# Altium integrated library Diodes - TVS.IntLib: 5379 symbols (part 7 of 122)
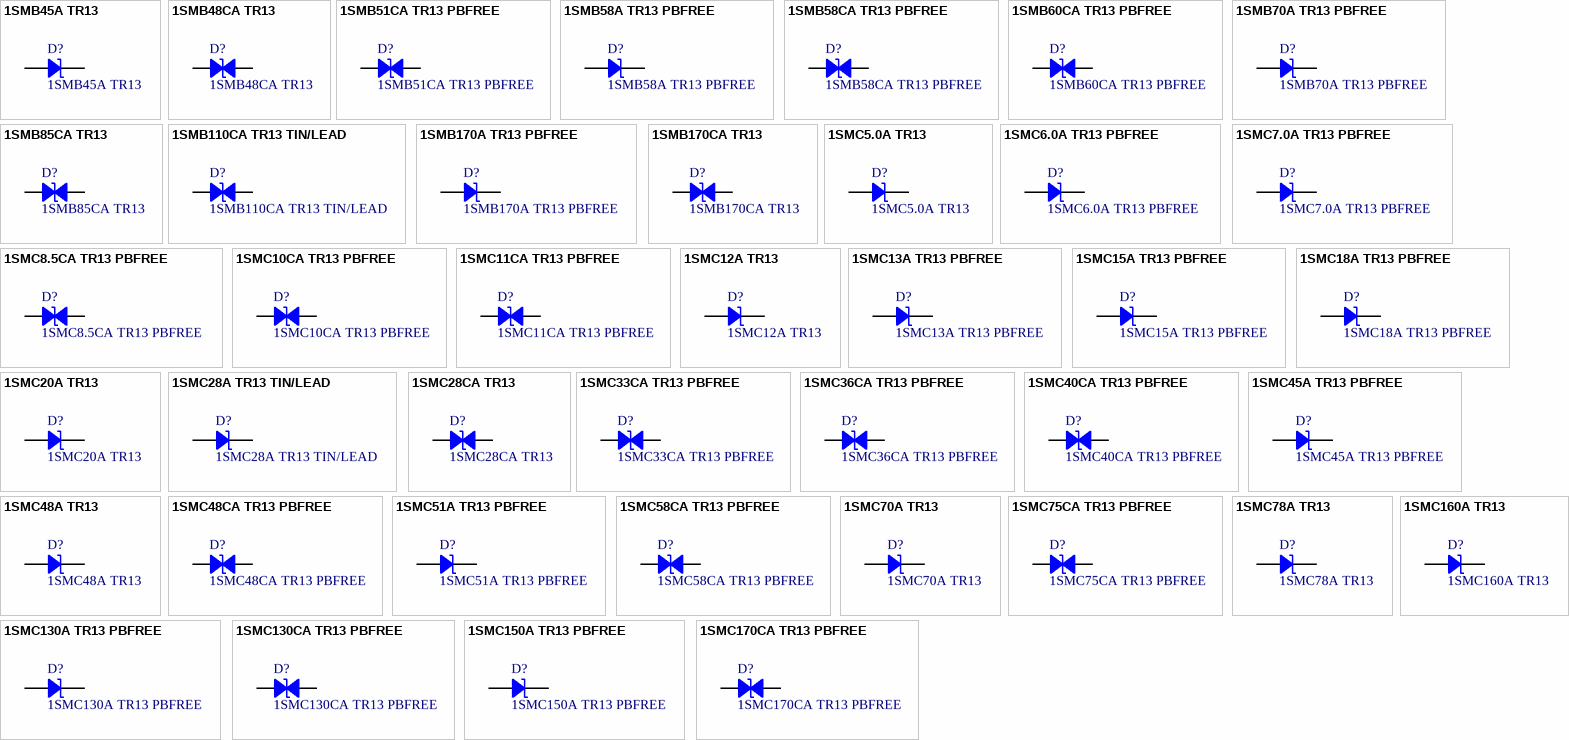
[diagram p140: symbols 1SMB45A TR13 to 1SMC170CA TR13 PBFREE]

## 1SMC18A TR13 PBFREE
designator D?
TVS DIODE 18V 29.2V SMC; Manufacturer: Central Semiconductor Corp; Current - Peak Pulse (10/1000µs): 51.4A; Power Line Protection: No; Power - Peak Pulse: 1500W (1.5kW); Type: Zener; Unidirectional Channels: 1; Voltage - Breakdown (Min): 20V; Part Number: 1SMC18A TR13 PBFREE; Applications: General Purpose; ComponentLink1Description: Datasheet; ComponentLink1URL: https://my.centralsemi.com/get_document.php?cmp=1&mergetype=pd&mergepath=pd&pdf_id=1SMC5.0A_170A.PDF; ComponentLink2Description: DigiKey Link; ComponentLink2URL: http://digikey.com/product-detail/en/central-semiconductor-corp/1SMC18A-TR13-PBFREE/1514-1SMC18ATR13PBFREECT-ND/5211009; LastUpdated: 9/2/2020 1:20:07 AM; Lifecycle Status: Active; Minimum Order: 1; Mounting Type: Surface Mount; Operating Temperature: -65°C ~ 150°C (TJ); Package / Case: DO-214AB, SMC; Packaging: TapeAndReel; PartId: 7112; Part Status: Active; Price: 0.41; Series: -; Supplier 1: DigiKey; Supplier Part Number 1: 1514-1SMC18ATR13PBFREECT-ND; Supplier Device Package: SMC; Voltage - Clamping (Max) @ Ipp: 29.2V; Voltage - Reverse Standoff (Typ): 18V
footprint DO214AB SMC
pins: 1, 2

## 1SMC20A TR13
designator D?
TVS DIODE 20V 32.4V SMC; Manufacturer: Central Semiconductor Corp; Current - Peak Pulse (10/1000µs): 46.3A; Power Line Protection: No; Power - Peak Pulse: 1500W (1.5kW); Type: Zener; Unidirectional Channels: 1; Voltage - Breakdown (Min): 22.2V; Part Number: 1SMC20A TR13; Applications: General Purpose; ComponentLink1Description: Datasheet; ComponentLink1URL: https://my.centralsemi.com/get_document.php?cmp=1&mergetype=pd&mergepath=pd&pdf_id=1SMC5.0A_170A.PDF; ComponentLink2Description: DigiKey Link; ComponentLink2URL: http://digikey.com/product-detail/en/central-semiconductor-corp/1SMC20A-TR13/1SMC20ATR13-CT-ND/5211011; LastUpdated: 9/2/2020 1:20:07 AM; Lifecycle Status: Active; Minimum Order: 1; Mounting Type: Surface Mount; Operating Temperature: -65°C ~ 150°C (TJ); Package / Case: DO-214AB, SMC; Packaging: CutTape; PartId: 7113; Part Status: Active; Price: 0.98; Series: -; Supplier 1: DigiKey; Supplier Part Number 1: 1SMC20ATR13-CT-ND; Supplier Device Package: SMC; Voltage - Clamping (Max) @ Ipp: 32.4V; Voltage - Reverse Standoff (Typ): 20V
footprint DO214AB SMC
pins: 1, 2

## 1SMC28A TR13 TIN/LEAD
designator D?
TVS DIODE 28V 45.4V SMC; Manufacturer: Central Semiconductor Corp; Current - Peak Pulse (10/1000µs): 33A; Power Line Protection: No; Power - Peak Pulse: 1500W (1.5kW); Type: Zener; Unidirectional Channels: 1; Voltage - Breakdown (Min): 31.1V; Part Number: 1SMC28A TR13 TIN/LEAD; Applications: General Purpose; ComponentLink1Description: Datasheet; ComponentLink1URL: https://my.centralsemi.com/get_document.php?cmp=1&mergetype=pd&mergepath=pd&pdf_id=1SMC5.0A_170A.PDF; ComponentLink2Description: DigiKey Link; ComponentLink2URL: http://digikey.com/product-detail/en/central-semiconductor-corp/1SMC28A-TR13-TIN-LEAD/1514-1SMC28ATR13TIN-LEADCT-ND/5211019; LastUpdated: 9/2/2020 1:20:07 AM; Lifecycle Status: Active; Minimum Order: 1; Mounting Type: Surface Mount; Operating Temperature: -65°C ~ 150°C (TJ); Package / Case: DO-214AB, SMC; Packaging: CutTape; PartId: 7103; Part Status: Active; Price: 0.98; Series: -; Supplier 1: DigiKey; Supplier Part Number 1: 1514-1SMC28ATR13TIN/LEADCT-ND; Supplier Device Package: SMC; Voltage - Clamping (Max) @ Ipp: 45.4V; Voltage - Reverse Standoff (Typ): 28V
footprint DO214AB SMC
pins: 1, 2

## 1SMC28CA TR13
designator D?
TVS DIODE 28V 45.4V SMC; Manufacturer: Central Semiconductor Corp; Bidirectional Channels: 1; Current - Peak Pulse (10/1000µs): 33A; Power Line Protection: No; Power - Peak Pulse: 1500W (1.5kW); Type: Zener; Voltage - Breakdown (Min): 31.1V; Part Number: 1SMC28CA TR13; Applications: General Purpose; ComponentLink1Description: Datasheet; ComponentLink1URL: https://my.centralsemi.com/get_document.php?cmp=1&mergetype=pd&mergepath=pd&pdf_id=1SMC5.0CA_170CA.PDF; ComponentLink2Description: DigiKey Link; ComponentLink2URL: http://digikey.com/product-detail/en/central-semiconductor-corp/1SMC28CA-TR13/1SMC28CATR13-CT-ND/5211020; LastUpdated: 9/2/2020 1:28:06 AM; Lifecycle Status: Active; Minimum Order: 1; Mounting Type: Surface Mount; Operating Temperature: -65°C ~ 150°C (TJ); Package / Case: DO-214AB, SMC; Packaging: TapeAndReel; PartId: 8452; Part Status: Active; Price: 0.33; Series: -; Supplier 1: DigiKey; Supplier Part Number 1: 1SMC28CATR13-CT-ND; Supplier Device Package: SMC; Voltage - Clamping (Max) @ Ipp: 45.4V; Voltage - Reverse Standoff (Typ): 28V
footprint DO214AB SMC
pins: 1, 2

## 1SMC33CA TR13 PBFREE
designator D?
TVS DIODE 33V 53.3V SMC; Manufacturer: Central Semiconductor Corp; Bidirectional Channels: 1; Current - Peak Pulse (10/1000µs): 28.1A; Power Line Protection: No; Power - Peak Pulse: 1500W (1.5kW); Type: Zener; Voltage - Breakdown (Min): 36.7V; Part Number: 1SMC33CA TR13 PBFREE; Applications: General Purpose; ComponentLink1Description: Datasheet; ComponentLink1URL: https://my.centralsemi.com/get_document.php?cmp=1&mergetype=pd&mergepath=pd&pdf_id=1SMC5.0CA_170CA.PDF; ComponentLink2Description: DigiKey Link; ComponentLink2URL: http://digikey.com/product-detail/en/central-semiconductor-corp/1SMC33CA-TR13-PBFREE/1514-1SMC33CATR13PBFREECT-ND/5211024; LastUpdated: 9/2/2020 1:28:01 AM; Lifecycle Status: Active; Minimum Order: 1; Mounting Type: Surface Mount; Operating Temperature: -65°C ~ 150°C (TJ); Package / Case: DO-214AB, SMC; Packaging: CutTape; PartId: 7878; Part Status: Active; Price: 1.98; Series: -; Supplier 1: DigiKey; Supplier Part Number 1: 1514-1SMC33CATR13PBFREECT-ND; Supplier Device Package: SMC; Voltage - Clamping (Max) @ Ipp: 53.3V; Voltage - Reverse Standoff (Typ): 33V
footprint DO214AB SMC
pins: 1, 2

## 1SMC36CA TR13 PBFREE
designator D?
TVS DIODE 36V 58.1V SMC; Manufacturer: Central Semiconductor Corp; Bidirectional Channels: 1; Current - Peak Pulse (10/1000µs): 25.8A; Power Line Protection: No; Power - Peak Pulse: 1500W (1.5kW); Type: Zener; Voltage - Breakdown (Min): 40V; Part Number: 1SMC36CA TR13 PBFREE; Applications: General Purpose; ComponentLink1Description: Datasheet; ComponentLink1URL: https://my.centralsemi.com/get_document.php?cmp=1&mergetype=pd&mergepath=pd&pdf_id=1SMC5.0CA_170CA.PDF; ComponentLink2Description: DigiKey Link; ComponentLink2URL: http://digikey.com/product-detail/en/central-semiconductor-corp/1SMC36CA-TR13-PBFREE/1514-1SMC36CATR13PBFREECT-ND/5211026; LastUpdated: 9/2/2020 1:28:07 AM; Lifecycle Status: Active; Minimum Order: 1; Mounting Type: Surface Mount; Operating Temperature: -65°C ~ 150°C (TJ); Package / Case: DO-214AB, SMC; Packaging: CutTape; PartId: 8556; Part Status: Active; Price: 1.14; Series: -; Supplier 1: DigiKey; Supplier Part Number 1: 1514-1SMC36CATR13PBFREECT-ND; Supplier Device Package: SMC; Voltage - Clamping (Max) @ Ipp: 58.1V; Voltage - Reverse Standoff (Typ): 36V
footprint DO214AB SMC
pins: 1, 2

## 1SMC40CA TR13 PBFREE
designator D?
TVS DIODE 40V 64.5V SMC; Manufacturer: Central Semiconductor Corp; Bidirectional Channels: 1; Current - Peak Pulse (10/1000µs): 23.2A; Power Line Protection: No; Power - Peak Pulse: 1500W (1.5kW); Type: Zener; Voltage - Breakdown (Min): 44.4V; Part Number: 1SMC40CA TR13 PBFREE; Applications: General Purpose; ComponentLink1Description: Datasheet; ComponentLink1URL: https://my.centralsemi.com/get_document.php?cmp=1&mergetype=pd&mergepath=pd&pdf_id=1SMC5.0CA_170CA.PDF; ComponentLink2Description: DigiKey Link; ComponentLink2URL: http://digikey.com/product-detail/en/central-semiconductor-corp/1SMC40CA-TR13-PBFREE/1514-1SMC40CATR13PBFREECT-ND/5211028; LastUpdated: 9/2/2020 1:28:07 AM; Lifecycle Status: Active; Minimum Order: 1; Mounting Type: Surface Mount; Operating Temperature: -65°C ~ 150°C (TJ); Package / Case: DO-214AB, SMC; Packaging: TapeAndReel; PartId: 8560; Part Status: Active; Price: 0.48; Series: -; Supplier 1: DigiKey; Supplier Part Number 1: 1514-1SMC40CATR13PBFREECT-ND; Supplier Device Package: SMC; Voltage - Clamping (Max) @ Ipp: 64.5V; Voltage - Reverse Standoff (Typ): 40V
footprint DO214AB SMC
pins: 1, 2

## 1SMC45A TR13 PBFREE
designator D?
TVS DIODE 45V 72.7V SMC; Manufacturer: Central Semiconductor Corp; Current - Peak Pulse (10/1000µs): 20.6A; Power Line Protection: No; Power - Peak Pulse: 1500W (1.5kW); Type: Zener; Unidirectional Channels: 1; Voltage - Breakdown (Min): 50V; Part Number: 1SMC45A TR13 PBFREE; Applications: General Purpose; ComponentLink1Description: Datasheet; ComponentLink1URL: https://my.centralsemi.com/get_document.php?cmp=1&mergetype=pd&mergepath=pd&pdf_id=1SMC5.0A_170A.PDF; ComponentLink2Description: DigiKey Link; ComponentLink2URL: http://digikey.com/product-detail/en/central-semiconductor-corp/1SMC45A-TR13-PBFREE/1514-1SMC45ATR13PBFREECT-ND/5211031; LastUpdated: 9/2/2020 1:20:07 AM; Lifecycle Status: Active; Minimum Order: 1; Mounting Type: Surface Mount; Operating Temperature: -65°C ~ 150°C (TJ); Package / Case: DO-214AB, SMC; Packaging: TapeAndReel; PartId: 7115; Part Status: Active; Price: 0.41; Series: -; Supplier 1: DigiKey; Supplier Part Number 1: 1514-1SMC45ATR13PBFREECT-ND; Supplier Device Package: SMC; Voltage - Clamping (Max) @ Ipp: 72.7V; Voltage - Reverse Standoff (Typ): 45V
footprint DO214AB SMC
pins: 1, 2

## 1SMC48A TR13
designator D?
TVS DIODE 48V 77.4V SMC; Manufacturer: Central Semiconductor Corp; Current - Peak Pulse (10/1000µs): 19.4A; Power Line Protection: No; Power - Peak Pulse: 1500W (1.5kW); Type: Zener; Unidirectional Channels: 1; Voltage - Breakdown (Min): 53.3V; Part Number: 1SMC48A TR13; Applications: General Purpose; ComponentLink1Description: Datasheet; ComponentLink1URL: https://my.centralsemi.com/get_document.php?cmp=1&mergetype=pd&mergepath=pd&pdf_id=1SMC5.0A_170A.PDF; ComponentLink2Description: DigiKey Link; ComponentLink2URL: http://digikey.com/product-detail/en/central-semiconductor-corp/1SMC48A-TR13/1SMC48ATR13-CT-ND/5211033; LastUpdated: 9/2/2020 1:20:07 AM; Lifecycle Status: Active; Minimum Order: 1; Mounting Type: Surface Mount; Operating Temperature: -65°C ~ 150°C (TJ); Package / Case: DO-214AB, SMC; Packaging: TapeAndReel; PartId: 7108; Part Status: Active; Price: 0.41; Series: -; Supplier 1: DigiKey; Supplier Part Number 1: 1SMC48ATR13-CT-ND; Supplier Device Package: SMC; Voltage - Clamping (Max) @ Ipp: 77.4V; Voltage - Reverse Standoff (Typ): 48V
footprint DO214AB SMC
pins: 1, 2

## 1SMC48CA TR13 PBFREE
designator D?
TVS DIODE 48V 77.4V SMC; Manufacturer: Central Semiconductor Corp; Bidirectional Channels: 1; Current - Peak Pulse (10/1000µs): 19.4A; Power Line Protection: No; Power - Peak Pulse: 1500W (1.5kW); Type: Zener; Voltage - Breakdown (Min): 53.3V; Part Number: 1SMC48CA TR13 PBFREE; Applications: General Purpose; ComponentLink1Description: Datasheet; ComponentLink1URL: https://my.centralsemi.com/get_document.php?cmp=1&mergetype=pd&mergepath=pd&pdf_id=1SMC5.0CA_170CA.PDF; ComponentLink2Description: DigiKey Link; ComponentLink2URL: http://digikey.com/product-detail/en/central-semiconductor-corp/1SMC48CA-TR13-PBFREE/1514-1SMC48CATR13PBFREECT-ND/5211034; LastUpdated: 9/2/2020 1:28:07 AM; Lifecycle Status: Active; Minimum Order: 1; Mounting Type: Surface Mount; Operating Temperature: -65°C ~ 150°C (TJ); Package / Case: DO-214AB, SMC; Packaging: TapeAndReel; PartId: 8558; Part Status: Active; Price: 0.48; Series: -; Supplier 1: DigiKey; Supplier Part Number 1: 1514-1SMC48CATR13PBFREECT-ND; Supplier Device Package: SMC; Voltage - Clamping (Max) @ Ipp: 77.4V; Voltage - Reverse Standoff (Typ): 48V
footprint DO214AB SMC
pins: 1, 2

## 1SMC51A TR13 PBFREE
designator D?
TVS DIODE 51V 82.4V SMC; Manufacturer: Central Semiconductor Corp; Current - Peak Pulse (10/1000µs): 18.2A; Power Line Protection: No; Power - Peak Pulse: 1500W (1.5kW); Type: Zener; Unidirectional Channels: 1; Voltage - Breakdown (Min): 56.7V; Part Number: 1SMC51A TR13 PBFREE; Applications: General Purpose; ComponentLink1Description: Datasheet; ComponentLink1URL: https://my.centralsemi.com/get_document.php?cmp=1&mergetype=pd&mergepath=pd&pdf_id=1SMC5.0A_170A.PDF; ComponentLink2Description: DigiKey Link; ComponentLink2URL: http://digikey.com/product-detail/en/central-semiconductor-corp/1SMC51A-TR13-PBFREE/1514-1SMC51ATR13PBFREECT-ND/5211037; LastUpdated: 9/2/2020 1:20:07 AM; Lifecycle Status: Active; Minimum Order: 1; Mounting Type: Surface Mount; Operating Temperature: -65°C ~ 150°C (TJ); Package / Case: DO-214AB, SMC; Packaging: CutTape; PartId: 7111; Part Status: Active; Price: 0.98; Series: -; Supplier 1: DigiKey; Supplier Part Number 1: 1514-1SMC51ATR13PBFREECT-ND; Supplier Device Package: SMC; Voltage - Clamping (Max) @ Ipp: 82.4V; Voltage - Reverse Standoff (Typ): 51V
footprint DO214AB SMC
pins: 1, 2

## 1SMC58CA TR13 PBFREE
designator D?
TVS DIODE 58V 93.6V SMC; Manufacturer: Central Semiconductor Corp; Bidirectional Channels: 1; Current - Peak Pulse (10/1000µs): 16A; Power Line Protection: No; Power - Peak Pulse: 1500W (1.5kW); Type: Zener; Voltage - Breakdown (Min): 64.4V; Part Number: 1SMC58CA TR13 PBFREE; Applications: General Purpose; ComponentLink1Description: Datasheet; ComponentLink1URL: https://my.centralsemi.com/get_document.php?cmp=1&mergetype=pd&mergepath=pd&pdf_id=1SMC5.0CA_170CA.PDF; ComponentLink2Description: DigiKey Link; ComponentLink2URL: http://digikey.com/product-detail/en/central-semiconductor-corp/1SMC58CA-TR13-PBFREE/1514-1SMC58CATR13PBFREECT-ND/5211042; LastUpdated: 9/2/2020 1:28:07 AM; Lifecycle Status: Active; Minimum Order: 1; Mounting Type: Surface Mount; Operating Temperature: -65°C ~ 150°C (TJ); Package / Case: DO-214AB, SMC; Packaging: CutTape; PartId: 8555; Part Status: Active; Price: 1.14; Series: -; Supplier 1: DigiKey; Supplier Part Number 1: 1514-1SMC58CATR13PBFREECT-ND; Supplier Device Package: SMC; Voltage - Clamping (Max) @ Ipp: 93.6V; Voltage - Reverse Standoff (Typ): 58V
footprint DO214AB SMC
pins: 1, 2

## 1SMC70A TR13
designator D?
TVS DIODE 70V 113V SMC; Manufacturer: Central Semiconductor Corp; Current - Peak Pulse (10/1000µs): 13.3A; Power Line Protection: No; Power - Peak Pulse: 1500W (1.5kW); Type: Zener; Unidirectional Channels: 1; Voltage - Breakdown (Min): 77.8V; Part Number: 1SMC70A TR13; Applications: General Purpose; ComponentLink1Description: Datasheet; ComponentLink1URL: https://my.centralsemi.com/get_document.php?cmp=1&mergetype=pd&mergepath=pd&pdf_id=1SMC5.0A_170A.PDF; ComponentLink2Description: DigiKey Link; ComponentLink2URL: http://digikey.com/product-detail/en/central-semiconductor-corp/1SMC70A-TR13/1SMC70ATR13-CT-ND/5211055; LastUpdated: 9/2/2020 1:20:07 AM; Lifecycle Status: Active; Minimum Order: 1; Mounting Type: Surface Mount; Operating Temperature: -65°C ~ 150°C (TJ); Package / Case: DO-214AB, SMC; Packaging: TapeAndReel; PartId: 7109; Part Status: Active; Price: 0.41; Series: -; Supplier 1: DigiKey; Supplier Part Number 1: 1SMC70ATR13-CT-ND; Supplier Device Package: SMC; Voltage - Clamping (Max) @ Ipp: 113V; Voltage - Reverse Standoff (Typ): 70V
footprint DO214AB SMC
pins: 1, 2

## 1SMC75CA TR13 PBFREE
designator D?
TVS DIODE 75V 121V SMC; Manufacturer: Central Semiconductor Corp; Bidirectional Channels: 1; Current - Peak Pulse (10/1000µs): 12.4A; Power Line Protection: No; Power - Peak Pulse: 1500W (1.5kW); Type: Zener; Voltage - Breakdown (Min): 83.3V; Part Number: 1SMC75CA TR13 PBFREE; Applications: General Purpose; ComponentLink1Description: Datasheet; ComponentLink1URL: https://my.centralsemi.com/get_document.php?cmp=1&mergetype=pd&mergepath=pd&pdf_id=1SMC5.0CA_170CA.PDF; ComponentLink2Description: DigiKey Link; ComponentLink2URL: http://digikey.com/product-detail/en/central-semiconductor-corp/1SMC75CA-TR13-PBFREE/1514-1SMC75CATR13PBFREECT-ND/5211058; LastUpdated: 9/2/2020 1:28:01 AM; Lifecycle Status: Active; Minimum Order: 1; Mounting Type: Surface Mount; Operating Temperature: -65°C ~ 150°C (TJ); Package / Case: DO-214AB, SMC; Packaging: CutTape; PartId: 7904; Part Status: Active; Price: 1.14; Series: -; Supplier 1: DigiKey; Supplier Part Number 1: 1514-1SMC75CATR13PBFREECT-ND; Supplier Device Package: SMC; Voltage - Clamping (Max) @ Ipp: 121V; Voltage - Reverse Standoff (Typ): 75V
footprint DO214AB SMC
pins: 1, 2

## 1SMC78A TR13
designator D?
TVS DIODE 78V 126V SMC; Manufacturer: Central Semiconductor Corp; Current - Peak Pulse (10/1000µs): 11.4A; Power Line Protection: No; Power - Peak Pulse: 1500W (1.5kW); Type: Zener; Unidirectional Channels: 1; Voltage - Breakdown (Min): 86.7V; Part Number: 1SMC78A TR13; Applications: General Purpose; ComponentLink1Description: Datasheet; ComponentLink1URL: https://my.centralsemi.com/get_document.php?cmp=1&mergetype=pd&mergepath=pd&pdf_id=1SMC5.0A_170A.PDF; ComponentLink2Description: DigiKey Link; ComponentLink2URL: http://digikey.com/product-detail/en/central-semiconductor-corp/1SMC78A-TR13/1SMC78ATR13-CT-ND/5211059; LastUpdated: 9/2/2020 1:20:07 AM; Lifecycle Status: Active; Minimum Order: 1; Mounting Type: Surface Mount; Operating Temperature: -65°C ~ 150°C (TJ); Package / Case: DO-214AB, SMC; Packaging: CutTape; PartId: 7114; Part Status: Active; Price: 0.98; Series: -; Supplier 1: DigiKey; Supplier Part Number 1: 1SMC78ATR13-CT-ND; Supplier Device Package: SMC; Voltage - Clamping (Max) @ Ipp: 126V; Voltage - Reverse Standoff (Typ): 78V
footprint DO214AB SMC
pins: 1, 2

## 1SMC130A TR13 PBFREE
designator D?
TVS DIODE 130V 209V SMC; Manufacturer: Central Semiconductor Corp; Current - Peak Pulse (10/1000µs): 7.2A; Power Line Protection: No; Power - Peak Pulse: 1500W (1.5kW); Type: Zener; Unidirectional Channels: 1; Voltage - Breakdown (Min): 144V; Part Number: 1SMC130A TR13 PBFREE; Applications: General Purpose; ComponentLink1Description: Datasheet; ComponentLink1URL: https://my.centralsemi.com/get_document.php?cmp=1&mergetype=pd&mergepath=pd&pdf_id=1SMC5.0A_170A.PDF; ComponentLink2Description: DigiKey Link; ComponentLink2URL: http://digikey.com/product-detail/en/central-semiconductor-corp/1SMC130A-TR13-PBFREE/1514-1SMC130ATR13PBFREECT-ND/5210991; LastUpdated: 9/2/2020 1:20:07 AM; Lifecycle Status: Active; Minimum Order: 1; Mounting Type: Surface Mount; Operating Temperature: -65°C ~ 150°C (TJ); Package / Case: DO-214AB, SMC; Packaging: CutTape; PartId: 7105; Part Status: Active; Price: 0.98; Series: -; Supplier 1: DigiKey; Supplier Part Number 1: 1514-1SMC130ATR13PBFREECT-ND; Supplier Device Package: SMC; Voltage - Clamping (Max) @ Ipp: 209V; Voltage - Reverse Standoff (Typ): 130V
footprint DO214AB SMC
pins: 1, 2

## 1SMC130CA TR13 PBFREE
designator D?
TVS DIODE 130V 209V SMC; Manufacturer: Central Semiconductor Corp; Bidirectional Channels: 1; Current - Peak Pulse (10/1000µs): 7.2A; Power Line Protection: No; Power - Peak Pulse: 1500W (1.5kW); Type: Zener; Voltage - Breakdown (Min): 144V; Part Number: 1SMC130CA TR13 PBFREE; Applications: General Purpose; ComponentLink1Description: Datasheet; ComponentLink1URL: https://my.centralsemi.com/get_document.php?cmp=1&mergetype=pd&mergepath=pd&pdf_id=1SMC5.0CA_170CA.PDF; ComponentLink2Description: DigiKey Link; ComponentLink2URL: http://digikey.com/product-detail/en/central-semiconductor-corp/1SMC130CA-TR13-PBFREE/1514-1SMC130CATR13PBFREECT-ND/5210992; LastUpdated: 9/2/2020 1:28:07 AM; Lifecycle Status: Active; Minimum Order: 1; Mounting Type: Surface Mount; Operating Temperature: -65°C ~ 150°C (TJ); Package / Case: DO-214AB, SMC; Packaging: CutTape; PartId: 8557; Part Status: Active; Price: 1.14; Series: -; Supplier 1: DigiKey; Supplier Part Number 1: 1514-1SMC130CATR13PBFREECT-ND; Supplier Device Package: SMC; Voltage - Clamping (Max) @ Ipp: 209V; Voltage - Reverse Standoff (Typ): 130V
footprint DO214AB SMC
pins: 1, 2

## 1SMC150A TR13 PBFREE
designator D?
TVS DIODE 150V 243V SMC; Manufacturer: Central Semiconductor Corp; Current - Peak Pulse (10/1000µs): 6.2A; Power Line Protection: No; Power - Peak Pulse: 1500W (1.5kW); Type: Zener; Unidirectional Channels: 1; Voltage - Breakdown (Min): 167V; Part Number: 1SMC150A TR13 PBFREE; Applications: General Purpose; ComponentLink1Description: Datasheet; ComponentLink1URL: https://my.centralsemi.com/get_document.php?cmp=1&mergetype=pd&mergepath=pd&pdf_id=1SMC5.0A_170A.PDF; ComponentLink2Description: DigiKey Link; ComponentLink2URL: http://digikey.com/product-detail/en/central-semiconductor-corp/1SMC150A-TR13-PBFREE/1514-1SMC150ATR13PBFREECT-ND/5210997; LastUpdated: 9/2/2020 1:20:07 AM; Lifecycle Status: Active; Minimum Order: 1; Mounting Type: Surface Mount; Operating Temperature: -65°C ~ 150°C (TJ); Package / Case: DO-214AB, SMC; Packaging: TapeAndReel; PartId: 7145; Part Status: Active; Price: 0.41; Series: -; Supplier 1: DigiKey; Supplier Part Number 1: 1514-1SMC150ATR13PBFREECT-ND; Supplier Device Package: SMC; Voltage - Clamping (Max) @ Ipp: 243V; Voltage - Reverse Standoff (Typ): 150V
footprint DO214AB SMC
pins: 1, 2

## 1SMC160A TR13
designator D?
TVS DIODE 160V 259V SMC; Manufacturer: Central Semiconductor Corp; Current - Peak Pulse (10/1000µs): 5.8A; Power Line Protection: No; Power - Peak Pulse: 1500W (1.5kW); Type: Zener; Unidirectional Channels: 1; Voltage - Breakdown (Min): 178V; Part Number: 1SMC160A TR13; Applications: General Purpose; ComponentLink1Description: Datasheet; ComponentLink1URL: https://my.centralsemi.com/get_document.php?cmp=1&mergetype=pd&mergepath=pd&pdf_id=1SMC5.0A_170A.PDF; ComponentLink2Description: DigiKey Link; ComponentLink2URL: http://digikey.com/product-detail/en/central-semiconductor-corp/1SMC160A-TR13/1SMC160ATR13-CT-ND/5211001; LastUpdated: 9/2/2020 1:20:04 AM; Lifecycle Status: Active; Minimum Order: 1; Mounting Type: Surface Mount; Operating Temperature: -65°C ~ 150°C (TJ); Package / Case: DO-214AB, SMC; Packaging: CutTape; PartId: 6884; Part Status: Active; Price: 0.85; Series: -; Supplier 1: DigiKey; Supplier Part Number 1: 1SMC160ATR13-CT-ND; Supplier Device Package: SMC; Voltage - Clamping (Max) @ Ipp: 259V; Voltage - Reverse Standoff (Typ): 160V
footprint DO214AB SMC
pins: 1, 2

## 1SMC170CA TR13 PBFREE
designator D?
TVS DIODE 170V 275V SMC; Manufacturer: Central Semiconductor Corp; Bidirectional Channels: 1; Current - Peak Pulse (10/1000µs): 5.5A; Power Line Protection: No; Power - Peak Pulse: 1500W (1.5kW); Type: Zener; Voltage - Breakdown (Min): 189V; Part Number: 1SMC170CA TR13 PBFREE; Applications: General Purpose; ComponentLink1Description: Datasheet; ComponentLink1URL: https://my.centralsemi.com/get_document.php?cmp=1&mergetype=pd&mergepath=pd&pdf_id=1SMC5.0CA_170CA.PDF; ComponentLink2Description: DigiKey Link; ComponentLink2URL: http://digikey.com/product-detail/en/central-semiconductor-corp/1SMC170CA-TR13-PBFREE/1514-1SMC170CATR13PBFREECT-ND/5211006; LastUpdated: 9/2/2020 1:28:07 AM; Lifecycle Status: Active; Minimum Order: 1; Mounting Type: Surface Mount; Operating Temperature: -65°C ~ 150°C (TJ); Package / Case: DO-214AB, SMC; Packaging: CutTape; PartId: 8559; Part Status: Active; Price: 1.14; Series: -; Supplier 1: DigiKey; Supplier Part Number 1: 1514-1SMC170CATR13PBFREECT-ND; Supplier Device Package: SMC; Voltage - Clamping (Max) @ Ipp: 275V; Voltage - Reverse Standoff (Typ): 170V
footprint DO214AB SMC
pins: 1, 2

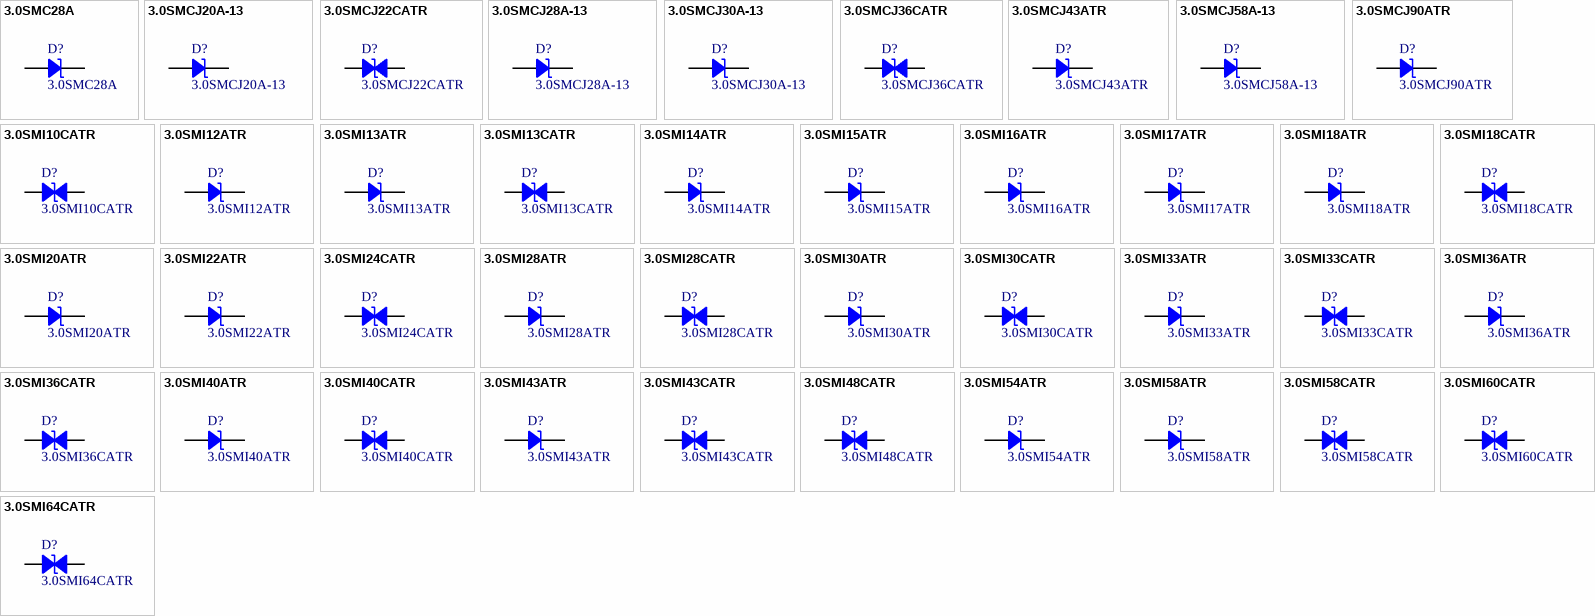
[diagram p7: symbols 3.0SMC28A to 3.0SMI64CATR]

## 3.0SMC28A
designator D?
TVS DIODE 28V 59V DO214AB; Manufacturer: Littelfuse Inc.; Current - Peak Pulse (10/1000µs): 470A (8/20µs); Power Line Protection: No; Type: Zener; Unidirectional Channels: 1; Voltage - Breakdown (Min): 31.1V; Part Number: 3.0SMC28A; Applications: General Purpose; ComponentLink1Description: Datasheet; ComponentLink1URL: https://www.littelfuse.com/~/media/electronics/datasheets/tvs_diodes/littelfuse_tvs_diode_3_0smc_datasheet.pdf.pdf; ComponentLink2Description: DigiKey Link; ComponentLink2URL: http://digikey.com/product-detail/en/littelfuse-inc/3.0SMC28A/18-3.0SMC28ACT-ND/10671934; LastUpdated: 9/2/2020 1:20:06 AM; Lifecycle Status: Active; Minimum Order: 1; Mounting Type: Surface Mount; Operating Temperature: -65°C ~ 150°C (TJ); Package / Case: DO-214AB, SMC; Packaging: TapeAndReel; PartId: 7013; Part Status: Active; Price: 0.27; Series: 3.0SMC; Supplier 1: DigiKey; Supplier Part Number 1: 18-3.0SMC28ACT-ND; Supplier Device Package: DO-214AB (SMCJ); Voltage - Clamping (Max) @ Ipp: 59V; Voltage - Reverse Standoff (Typ): 28V
footprint DO214AB SMC
pins: 1, 2

## 3.0SMCJ20A-13
designator D?
TVS DIODE 20V 32.4V SMC; Manufacturer: Diodes Incorporated; Capacitance @ Frequency: 3300pF @ 1MHz; Current - Peak Pulse (10/1000µs): 62.6A; Power Line Protection: No; Power - Peak Pulse: 3000W (3kW); Type: Zener; Unidirectional Channels: 1; Voltage - Breakdown (Min): 22.2V; Part Number: 3.0SMCJ20A-13; Applications: General Purpose; ComponentLink1Description: Datasheet; ComponentLink1URL: https://www.diodes.com/assets/Datasheets/ds30818.pdf; ComponentLink2Description: DigiKey Link; ComponentLink2URL: http://digikey.com/product-detail/en/diodes-incorporated/3.0SMCJ20A-13/3.0SMCJ20ADICT-ND/1774225; LastUpdated: 9/2/2020 1:20:02 AM; Lifecycle Status: Active; Minimum Order: 1; Mounting Type: Surface Mount; Operating Temperature: -55°C ~ 175°C (TJ); Package / Case: DO-214AB, SMC; Packaging: TapeAndReel; PartId: 6611; Part Status: Active; Price: 0.40; Series: -; Supplier 1: DigiKey; Supplier Part Number 1: 3.0SMCJ20ADICT-ND; Supplier Device Package: SMC; Voltage - Clamping (Max) @ Ipp: 32.4V; Voltage - Reverse Standoff (Typ): 20V
footprint DO214AB SMC
pins: 1, 2

## 3.0SMCJ22CATR
designator D?
TVS DIODE 18V 29.2V SMC; Manufacturer: SMC Diode Solutions; Bidirectional Channels: 1; Current - Peak Pulse (10/1000µs): 102.8A; Power Line Protection: No; Power - Peak Pulse: 3000W (3kW); Type: Zener; Voltage - Breakdown (Min): 20V; Part Number: 3.0SMCJ22CATR; Applications: General Purpose; ComponentLink1Description: Datasheet; ComponentLink1URL: http://www.smc-diodes.com/propdf/3.0SMCJ%20SERIES%20N0001%20REV.B.pdf; ComponentLink2Description: DigiKey Link; ComponentLink2URL: http://digikey.com/product-detail/en/smc-diode-solutions/3.0SMCJ22CATR/1655-1385-1-ND/6022830; LastUpdated: 9/2/2020 1:28:01 AM; Lifecycle Status: Active; Minimum Order: 1; Mounting Type: Surface Mount; Operating Temperature: -55°C ~ 150°C (TJ); Package / Case: DO-214AB, SMC; Packaging: TapeAndReel; PartId: 7902; Part Status: Active; Price: 0.58; Series: 3.0SMCJ; Supplier 1: DigiKey; Supplier Part Number 1: 1655-1385-1-ND; Supplier Device Package: SMC (DO-214AB); Voltage - Clamping (Max) @ Ipp: 29.2V; Voltage - Reverse Standoff (Typ): 18V
footprint DO214AB SMC
pins: 1, 2

## 3.0SMCJ28A-13
designator D?
TVS DIODE 28V 45.4V SMC; Manufacturer: Diodes Incorporated; Capacitance @ Frequency: 1800pF @ 1MHz; Current - Peak Pulse (10/1000µs): 66.1A; Power Line Protection: No; Power - Peak Pulse: 3000W (3kW); Type: Zener; Unidirectional Channels: 1; Voltage - Breakdown (Min): 31.1V; Part Number: 3.0SMCJ28A-13; Applications: General Purpose; ComponentLink1Description: Datasheet; ComponentLink1URL: https://www.diodes.com/assets/Datasheets/ds30818.pdf; ComponentLink2Description: DigiKey Link; ComponentLink2URL: http://digikey.com/product-detail/en/diodes-incorporated/3.0SMCJ28A-13/3.0SMCJ28ADICT-ND/1774320; LastUpdated: 9/2/2020 1:20:06 AM; Lifecycle Status: Active; Minimum Order: 1; Mounting Type: Surface Mount; Operating Temperature: -55°C ~ 175°C (TJ); Package / Case: DO-214AB, SMC; Packaging: TapeAndReel; PartId: 7053; Part Status: Active; Price: 0.45; Series: -; Supplier 1: DigiKey; Supplier Part Number 1: 3.0SMCJ28ADICT-ND; Supplier Device Package: SMC; Voltage - Clamping (Max) @ Ipp: 45.4V; Voltage - Reverse Standoff (Typ): 28V
footprint DO214AB SMC
pins: 1, 2

## 3.0SMCJ30A-13
designator D?
TVS DIODE 30V 48.4V SMC; Manufacturer: Diodes Incorporated; Capacitance @ Frequency: 1700pF @ 1MHz; Current - Peak Pulse (10/1000µs): 62A; Power Line Protection: No; Power - Peak Pulse: 3000W (3kW); Type: Zener; Unidirectional Channels: 1; Voltage - Breakdown (Min): 33.3V; Part Number: 3.0SMCJ30A-13; Applications: General Purpose; ComponentLink1Description: Datasheet; ComponentLink1URL: https://www.diodes.com/assets/Datasheets/ds30818.pdf; ComponentLink2Description: DigiKey Link; ComponentLink2URL: http://digikey.com/product-detail/en/diodes-incorporated/3.0SMCJ30A-13/3.0SMCJ30ADICT-ND/1774321; LastUpdated: 9/2/2020 1:20:08 AM; Lifecycle Status: Active; Minimum Order: 1; Mounting Type: Surface Mount; Operating Temperature: -55°C ~ 175°C (TJ); Package / Case: DO-214AB, SMC; Packaging: TapeAndReel; PartId: 7270; Part Status: Active; Price: 0.64; Series: -; Supplier 1: DigiKey; Supplier Part Number 1: 3.0SMCJ30ADICT-ND; Supplier Device Package: SMC; Voltage - Clamping (Max) @ Ipp: 48.4V; Voltage - Reverse Standoff (Typ): 30V
footprint DO214AB SMC
pins: 1, 2

## 3.0SMCJ36CATR
designator D?
TVS DIODE 36.5V 58.1V DO214AB; Manufacturer: SMC Diode Solutions; Bidirectional Channels: 1; Current - Peak Pulse (10/1000µs): 51.6A; Power Line Protection: No; Power - Peak Pulse: 3000W (3kW); Type: Zener; Voltage - Breakdown (Min): 40V; Part Number: 3.0SMCJ36CATR; Applications: General Purpose; ComponentLink1Description: Datasheet; ComponentLink1URL: http://www.smc-diodes.com/propdf/3.0SMCJ%20SERIES%20N0001%20REV.B.pdf; ComponentLink2Description: DigiKey Link; ComponentLink2URL: http://digikey.com/product-detail/en/smc-diode-solutions/3.0SMCJ36CATR/1655-1712-1-ND/6618754; LastUpdated: 9/2/2020 1:28:04 AM; Lifecycle Status: Active; Minimum Order: 1; Mounting Type: Surface Mount; Operating Temperature: -55°C ~ 150°C (TJ); Package / Case: DO-214AB, SMC; Packaging: TapeAndReel; PartId: 8254; Part Status: Active; Price: 0.58; Series: -; Supplier 1: DigiKey; Supplier Part Number 1: 1655-1712-1-ND; Supplier Device Package: DO-214AB (SMC); Voltage - Clamping (Max) @ Ipp: 58.1V; Voltage - Reverse Standoff (Typ): 36.5V
footprint DO214AB SMC
pins: 1, 2

## 3.0SMCJ43ATR
designator D?
TVS DIODE 43V 69.4V SMC; Manufacturer: SMC Diode Solutions; Current - Peak Pulse (10/1000µs): 43.2A; Power Line Protection: No; Power - Peak Pulse: 3000W (3kW); Type: Zener; Unidirectional Channels: 1; Voltage - Breakdown (Min): 47.8V; Part Number: 3.0SMCJ43ATR; Applications: General Purpose; ComponentLink1Description: Datasheet; ComponentLink1URL: http://www.smc-diodes.com/propdf/3.0SMCJ%20SERIES%20N0001%20REV.B.pdf; ComponentLink2Description: DigiKey Link; ComponentLink2URL: http://digikey.com/product-detail/en/smc-diode-solutions/3.0SMCJ43ATR/1655-1386-1-ND/6022831; LastUpdated: 9/2/2020 1:20:05 AM; Lifecycle Status: Active; Minimum Order: 1; Mounting Type: Surface Mount; Operating Temperature: -55°C ~ 150°C (TJ); Package / Case: DO-214AB, SMC; Packaging: TapeAndReel; PartId: 6960; Part Status: Active; Price: 0.56; Series: 3.0SMCJ; Supplier 1: DigiKey; Supplier Part Number 1: 1655-1386-1-ND; Supplier Device Package: SMC (DO-214AB); Voltage - Clamping (Max) @ Ipp: 69.4V; Voltage - Reverse Standoff (Typ): 43V
footprint DO214AB SMC
pins: 1, 2

## 3.0SMCJ58A-13
designator D?
TVS DIODE 58V 93.6V SMC; Manufacturer: Diodes Incorporated; Capacitance @ Frequency: 1500pF @ 1MHz; Current - Peak Pulse (10/1000µs): 32.1A; Power Line Protection: No; Power - Peak Pulse: 3000W (3kW); Type: Zener; Unidirectional Channels: 1; Voltage - Breakdown (Min): 64.4V; Part Number: 3.0SMCJ58A-13; Applications: General Purpose; ComponentLink1Description: Datasheet; ComponentLink1URL: https://www.diodes.com/assets/Datasheets/ds30818.pdf; ComponentLink2Description: DigiKey Link; ComponentLink2URL: http://digikey.com/product-detail/en/diodes-incorporated/3.0SMCJ58A-13/3.0SMCJ58ADICT-ND/1774323; LastUpdated: 9/2/2020 1:20:06 AM; Lifecycle Status: Active; Minimum Order: 1; Mounting Type: Surface Mount; Operating Temperature: -55°C ~ 175°C (TJ); Package / Case: DO-214AB, SMC; Packaging: TapeAndReel; PartId: 6988; Part Status: Active; Price: 0.48; Series: -; Supplier 1: DigiKey; Supplier Part Number 1: 3.0SMCJ58ADICT-ND; Supplier Device Package: SMC; Voltage - Clamping (Max) @ Ipp: 93.6V; Voltage - Reverse Standoff (Typ): 58V
footprint DO214AB SMC
pins: 1, 2

## 3.0SMCJ90ATR
designator D?
TVS DIODE 90V 146V SMC; Manufacturer: SMC Diode Solutions; Current - Peak Pulse (10/1000µs): 20.6A; Power Line Protection: No; Power - Peak Pulse: 3000W (3kW); Type: Zener; Unidirectional Channels: 1; Voltage - Breakdown (Min): 100V; Part Number: 3.0SMCJ90ATR; Applications: General Purpose; ComponentLink1Description: Datasheet; ComponentLink1URL: http://www.smc-diodes.com/propdf/3.0SMCJ%20SERIES%20N0001%20REV.B.pdf; ComponentLink2Description: DigiKey Link; ComponentLink2URL: http://digikey.com/product-detail/en/smc-diode-solutions/3.0SMCJ90ATR/1655-1724-1-ND/6674444; LastUpdated: 9/2/2020 1:20:05 AM; Lifecycle Status: Active; Minimum Order: 1; Mounting Type: Surface Mount; Operating Temperature: -55°C ~ 150°C (TJ); Package / Case: DO-214AB, SMC; Packaging: TapeAndReel; PartId: 6961; Part Status: Active; Price: 0.56; Series: -; Supplier 1: DigiKey; Supplier Part Number 1: 1655-1724-1-ND; Supplier Device Package: SMC (DO-214AB); Voltage - Clamping (Max) @ Ipp: 146V; Voltage - Reverse Standoff (Typ): 90V
footprint DO214AB SMC
pins: 1, 2

## 3.0SMI10CATR
designator D?
DIODE TRANSIENT VOLTAGE SUPPRESS; Manufacturer: SMC Diode Solutions; Bidirectional Channels: 1; Current - Peak Pulse (10/1000µs): 176.5A; Power Line Protection: No; Power - Peak Pulse: 3000W (3kW); Type: Zener; Voltage - Breakdown (Min): 11.1V; Voltage - Clamping (Max) @ Ipp: 17V; Voltage - Reverse Standoff (Typ): 10V; Part Number: 3.0SMI10CATR; Applications: General Purpose; ComponentLink1Description: Datasheet; ComponentLink1URL: http://www.smc-diodes.com/propdf/3.0SMI%20SERIES%20N1804%20REV.A.pdf; ComponentLink2Description: DigiKey Link; ComponentLink2URL: http://digikey.com/product-detail/en/smc-diode-solutions/3.0SMI10CATR/1655-2032-1-ND/9566350; LastUpdated: 9/2/2020 1:28:05 AM; Lifecycle Status: Active; Minimum Order: 1; Mounting Type: Surface Mount; Operating Temperature: -55°C ~ 150°C (TJ); Package / Case: DO-214AB, SMC; Packaging: TapeAndReel; PartId: 8360; Part Status: Active; Price: 0.19; Series: 3.0SMI; Supplier 1: DigiKey; Supplier Part Number 1: 1655-2032-1-ND; Supplier Device Package: SMC (DO-214AB)
footprint DO214AB SMC
pins: 1, 2

## 3.0SMI12ATR
designator D?
DIODE TRANSIENT VOLTAGE SUPPRESS; Manufacturer: SMC Diode Solutions; Current - Peak Pulse (10/1000µs): 150.8A; Power Line Protection: No; Power - Peak Pulse: 3000W (3kW); Type: Zener; Unidirectional Channels: 1; Voltage - Breakdown (Min): 13.3V; Voltage - Clamping (Max) @ Ipp: 19.9V; Voltage - Reverse Standoff (Typ): 12V; Part Number: 3.0SMI12ATR; Applications: General Purpose; ComponentLink1Description: Datasheet; ComponentLink1URL: http://www.smc-diodes.com/propdf/3.0SMI%20SERIES%20N1804%20REV.A.pdf; ComponentLink2Description: DigiKey Link; ComponentLink2URL: http://digikey.com/product-detail/en/smc-diode-solutions/3.0SMI12ATR/1655-2035-1-ND/9566353; LastUpdated: 9/2/2020 1:20:03 AM; Lifecycle Status: Active; Minimum Order: 1; Mounting Type: Surface Mount; Operating Temperature: -55°C ~ 150°C (TJ); Package / Case: DO-214AB, SMC; Packaging: TapeAndReel; PartId: 6727; Part Status: Active; Price: 0.19; Series: 3.0SMI; Supplier 1: DigiKey; Supplier Part Number 1: 1655-2035-1-ND; Supplier Device Package: SMC (DO-214AB)
footprint DO214AB SMC
pins: 1, 2

## 3.0SMI13ATR
designator D?
DIODE TRANSIENT VOLTAGE SUPPRESS; Manufacturer: SMC Diode Solutions; Current - Peak Pulse (10/1000µs): 139.5A; Power Line Protection: No; Power - Peak Pulse: 3000W (3kW); Type: Zener; Unidirectional Channels: 1; Voltage - Breakdown (Min): 14.4V; Voltage - Clamping (Max) @ Ipp: 21.5V; Voltage - Reverse Standoff (Typ): 13V; Part Number: 3.0SMI13ATR; Applications: General Purpose; ComponentLink1Description: Datasheet; ComponentLink1URL: http://www.smc-diodes.com/propdf/3.0SMI%20SERIES%20N1804%20REV.A.pdf; ComponentLink2Description: DigiKey Link; ComponentLink2URL: http://digikey.com/product-detail/en/smc-diode-solutions/3.0SMI13ATR/1655-2037-1-ND/9566355; LastUpdated: 9/2/2020 1:20:03 AM; Lifecycle Status: Active; Minimum Order: 1; Mounting Type: Surface Mount; Operating Temperature: -55°C ~ 150°C (TJ); Package / Case: DO-214AB, SMC; Packaging: TapeAndReel; PartId: 6723; Part Status: Active; Price: 0.19; Series: 3.0SMI; Supplier 1: DigiKey; Supplier Part Number 1: 1655-2037-1-ND; Supplier Device Package: SMC (DO-214AB)
footprint DO214AB SMC
pins: 1, 2

## 3.0SMI13CATR
designator D?
DIODE TRANSIENT VOLTAGE SUPPRESS; Manufacturer: SMC Diode Solutions; Bidirectional Channels: 1; Current - Peak Pulse (10/1000µs): 139.5A; Power Line Protection: No; Power - Peak Pulse: 3000W (3kW); Type: Zener; Voltage - Breakdown (Min): 14.4V; Voltage - Clamping (Max) @ Ipp: 21.5V; Voltage - Reverse Standoff (Typ): 13V; Part Number: 3.0SMI13CATR; Applications: General Purpose; ComponentLink1Description: Datasheet; ComponentLink1URL: http://www.smc-diodes.com/propdf/3.0SMI%20SERIES%20N1804%20REV.A.pdf; ComponentLink2Description: DigiKey Link; ComponentLink2URL: http://digikey.com/product-detail/en/smc-diode-solutions/3.0SMI13CATR/1655-2038-1-ND/9566356; LastUpdated: 9/2/2020 1:28:05 AM; Lifecycle Status: Active; Minimum Order: 1; Mounting Type: Surface Mount; Operating Temperature: -55°C ~ 150°C (TJ); Package / Case: DO-214AB, SMC; Packaging: TapeAndReel; PartId: 8359; Part Status: Active; Price: 0.19; Series: 3.0SMI; Supplier 1: DigiKey; Supplier Part Number 1: 1655-2038-1-ND; Supplier Device Package: SMC (DO-214AB)
footprint DO214AB SMC
pins: 1, 2

## 3.0SMI14ATR
designator D?
DIODE TRANSIENT VOLTAGE SUPPRESS; Manufacturer: SMC Diode Solutions; Current - Peak Pulse (10/1000µs): 129.3A; Power Line Protection: No; Power - Peak Pulse: 3000W (3kW); Type: Zener; Unidirectional Channels: 1; Voltage - Breakdown (Min): 15.6V; Voltage - Clamping (Max) @ Ipp: 23.2V; Voltage - Reverse Standoff (Typ): 14V; Part Number: 3.0SMI14ATR; Applications: General Purpose; ComponentLink1Description: Datasheet; ComponentLink1URL: http://www.smc-diodes.com/propdf/3.0SMI%20SERIES%20N1804%20REV.A.pdf; ComponentLink2Description: DigiKey Link; ComponentLink2URL: http://digikey.com/product-detail/en/smc-diode-solutions/3.0SMI14ATR/1655-2039-1-ND/9566357; LastUpdated: 9/2/2020 1:20:03 AM; Lifecycle Status: Active; Minimum Order: 1; Mounting Type: Surface Mount; Operating Temperature: -55°C ~ 150°C (TJ); Package / Case: DO-214AB, SMC; Packaging: TapeAndReel; PartId: 6725; Part Status: Active; Price: 0.19; Series: 3.0SMI; Supplier 1: DigiKey; Supplier Part Number 1: 1655-2039-1-ND; Supplier Device Package: SMC (DO-214AB)
footprint DO214AB SMC
pins: 1, 2

## 3.0SMI15ATR
designator D?
DIODE TRANSIENT VOLTAGE SUPPRESS; Manufacturer: SMC Diode Solutions; Current - Peak Pulse (10/1000µs): 123A; Power Line Protection: No; Power - Peak Pulse: 3000W (3kW); Type: Zener; Unidirectional Channels: 1; Voltage - Breakdown (Min): 16.7V; Voltage - Clamping (Max) @ Ipp: 24.4V; Voltage - Reverse Standoff (Typ): 15V; Part Number: 3.0SMI15ATR; Applications: General Purpose; ComponentLink1Description: Datasheet; ComponentLink1URL: http://www.smc-diodes.com/propdf/3.0SMI%20SERIES%20N1804%20REV.A.pdf; ComponentLink2Description: DigiKey Link; ComponentLink2URL: http://digikey.com/product-detail/en/smc-diode-solutions/3.0SMI15ATR/1655-2041-1-ND/9566359; LastUpdated: 9/2/2020 1:20:03 AM; Lifecycle Status: Active; Minimum Order: 1; Mounting Type: Surface Mount; Operating Temperature: -55°C ~ 150°C (TJ); Package / Case: DO-214AB, SMC; Packaging: TapeAndReel; PartId: 6739; Part Status: Active; Price: 0.19; Series: 3.0SMI; Supplier 1: DigiKey; Supplier Part Number 1: 1655-2041-1-ND; Supplier Device Package: SMC (DO-214AB)
footprint DO214AB SMC
pins: 1, 2

## 3.0SMI16ATR
designator D?
DIODE TRANSIENT VOLTAGE SUPPRESS; Manufacturer: SMC Diode Solutions; Current - Peak Pulse (10/1000µs): 115.4A; Power Line Protection: No; Power - Peak Pulse: 3000W (3kW); Type: Zener; Unidirectional Channels: 1; Voltage - Breakdown (Min): 17.8V; Voltage - Clamping (Max) @ Ipp: 26V; Voltage - Reverse Standoff (Typ): 16V; Part Number: 3.0SMI16ATR; Applications: General Purpose; ComponentLink1Description: Datasheet; ComponentLink1URL: http://www.smc-diodes.com/propdf/3.0SMI%20SERIES%20N1804%20REV.A.pdf; ComponentLink2Description: DigiKey Link; ComponentLink2URL: http://digikey.com/product-detail/en/smc-diode-solutions/3.0SMI16ATR/1655-2043-1-ND/9566361; LastUpdated: 9/2/2020 1:20:03 AM; Lifecycle Status: Active; Minimum Order: 1; Mounting Type: Surface Mount; Operating Temperature: -55°C ~ 150°C (TJ); Package / Case: DO-214AB, SMC; Packaging: TapeAndReel; PartId: 6732; Part Status: Active; Price: 0.19; Series: 3.0SMI; Supplier 1: DigiKey; Supplier Part Number 1: 1655-2043-1-ND; Supplier Device Package: SMC (DO-214AB)
footprint DO214AB SMC
pins: 1, 2

## 3.0SMI17ATR
designator D?
DIODE TRANSIENT VOLTAGE SUPPRESS; Manufacturer: SMC Diode Solutions; Current - Peak Pulse (10/1000µs): 108.7A; Power Line Protection: No; Power - Peak Pulse: 3000W (3kW); Type: Zener; Unidirectional Channels: 1; Voltage - Breakdown (Min): 18.9V; Voltage - Clamping (Max) @ Ipp: 27.6V; Voltage - Reverse Standoff (Typ): 17V; Part Number: 3.0SMI17ATR; Applications: General Purpose; ComponentLink1Description: Datasheet; ComponentLink1URL: http://www.smc-diodes.com/propdf/3.0SMI%20SERIES%20N1804%20REV.A.pdf; ComponentLink2Description: DigiKey Link; ComponentLink2URL: http://digikey.com/product-detail/en/smc-diode-solutions/3.0SMI17ATR/1655-2045-1-ND/9566363; LastUpdated: 9/2/2020 1:20:03 AM; Lifecycle Status: Active; Minimum Order: 1; Mounting Type: Surface Mount; Operating Temperature: -55°C ~ 150°C (TJ); Package / Case: DO-214AB, SMC; Packaging: TapeAndReel; PartId: 6738; Part Status: Active; Price: 0.19; Series: 3.0SMI; Supplier 1: DigiKey; Supplier Part Number 1: 1655-2045-1-ND; Supplier Device Package: SMC (DO-214AB)
footprint DO214AB SMC
pins: 1, 2

## 3.0SMI18ATR
designator D?
DIODE TRANSIENT VOLTAGE SUPPRESS; Manufacturer: SMC Diode Solutions; Current - Peak Pulse (10/1000µs): 102.7A; Power Line Protection: No; Power - Peak Pulse: 3000W (3kW); Type: Zener; Unidirectional Channels: 1; Voltage - Breakdown (Min): 20V; Voltage - Clamping (Max) @ Ipp: 29.2V; Voltage - Reverse Standoff (Typ): 18V; Part Number: 3.0SMI18ATR; Applications: General Purpose; ComponentLink1Description: Datasheet; ComponentLink1URL: http://www.smc-diodes.com/propdf/3.0SMI%20SERIES%20N1804%20REV.A.pdf; ComponentLink2Description: DigiKey Link; ComponentLink2URL: http://digikey.com/product-detail/en/smc-diode-solutions/3.0SMI18ATR/1655-2047-1-ND/9566365; LastUpdated: 9/2/2020 1:20:03 AM; Lifecycle Status: Active; Minimum Order: 1; Mounting Type: Surface Mount; Operating Temperature: -55°C ~ 150°C (TJ); Package / Case: DO-214AB, SMC; Packaging: TapeAndReel; PartId: 6726; Part Status: Active; Price: 0.19; Series: 3.0SMI; Supplier 1: DigiKey; Supplier Part Number 1: 1655-2047-1-ND; Supplier Device Package: SMC (DO-214AB)
footprint DO214AB SMC
pins: 1, 2

## 3.0SMI18CATR
designator D?
DIODE TRANSIENT VOLTAGE SUPPRESS; Manufacturer: SMC Diode Solutions; Bidirectional Channels: 1; Current - Peak Pulse (10/1000µs): 102.7A; Power Line Protection: No; Power - Peak Pulse: 3000W (3kW); Type: Zener; Voltage - Breakdown (Min): 20V; Voltage - Clamping (Max) @ Ipp: 29.2V; Voltage - Reverse Standoff (Typ): 18V; Part Number: 3.0SMI18CATR; Applications: General Purpose; ComponentLink1Description: Datasheet; ComponentLink1URL: http://www.smc-diodes.com/propdf/3.0SMI%20SERIES%20N1804%20REV.A.pdf; ComponentLink2Description: DigiKey Link; ComponentLink2URL: http://digikey.com/product-detail/en/smc-diode-solutions/3.0SMI18CATR/1655-2048-1-ND/9566366; LastUpdated: 9/2/2020 1:28:05 AM; Lifecycle Status: Active; Minimum Order: 1; Mounting Type: Surface Mount; Operating Temperature: -55°C ~ 150°C (TJ); Package / Case: DO-214AB, SMC; Packaging: TapeAndReel; PartId: 8358; Part Status: Active; Price: 0.19; Series: 3.0SMI; Supplier 1: DigiKey; Supplier Part Number 1: 1655-2048-1-ND; Supplier Device Package: SMC (DO-214AB)
footprint DO214AB SMC
pins: 1, 2

## 3.0SMI20ATR
designator D?
DIODE TRANSIENT VOLTAGE SUPPRESS; Manufacturer: SMC Diode Solutions; Current - Peak Pulse (10/1000µs): 92.6A; Power Line Protection: No; Power - Peak Pulse: 3000W (3kW); Type: Zener; Unidirectional Channels: 1; Voltage - Breakdown (Min): 22.2V; Voltage - Clamping (Max) @ Ipp: 32.4V; Voltage - Reverse Standoff (Typ): 20V; Part Number: 3.0SMI20ATR; Applications: General Purpose; ComponentLink1Description: Datasheet; ComponentLink1URL: http://www.smc-diodes.com/propdf/3.0SMI%20SERIES%20N1804%20REV.A.pdf; ComponentLink2Description: DigiKey Link; ComponentLink2URL: http://digikey.com/product-detail/en/smc-diode-solutions/3.0SMI20ATR/1655-2049-1-ND/9566367; LastUpdated: 9/2/2020 1:20:03 AM; Lifecycle Status: Active; Minimum Order: 1; Mounting Type: Surface Mount; Operating Temperature: -55°C ~ 150°C (TJ); Package / Case: DO-214AB, SMC; Packaging: TapeAndReel; PartId: 6722; Part Status: Active; Price: 0.19; Series: 3.0SMI; Supplier 1: DigiKey; Supplier Part Number 1: 1655-2049-1-ND; Supplier Device Package: SMC (DO-214AB)
footprint DO214AB SMC
pins: 1, 2

## 3.0SMI22ATR
designator D?
DIODE TRANSIENT VOLTAGE SUPPRESS; Manufacturer: SMC Diode Solutions; Current - Peak Pulse (10/1000µs): 84.5A; Power Line Protection: No; Power - Peak Pulse: 3000W (3kW); Type: Zener; Unidirectional Channels: 1; Voltage - Breakdown (Min): 24.4V; Voltage - Clamping (Max) @ Ipp: 35.5V; Voltage - Reverse Standoff (Typ): 22V; Part Number: 3.0SMI22ATR; Applications: General Purpose; ComponentLink1Description: Datasheet; ComponentLink1URL: http://www.smc-diodes.com/propdf/3.0SMI%20SERIES%20N1804%20REV.A.pdf; ComponentLink2Description: DigiKey Link; ComponentLink2URL: http://digikey.com/product-detail/en/smc-diode-solutions/3.0SMI22ATR/1655-2051-1-ND/9566369; LastUpdated: 9/2/2020 1:20:03 AM; Lifecycle Status: Active; Minimum Order: 1; Mounting Type: Surface Mount; Operating Temperature: -55°C ~ 150°C (TJ); Package / Case: DO-214AB, SMC; Packaging: TapeAndReel; PartId: 6737; Part Status: Active; Price: 0.19; Series: 3.0SMI; Supplier 1: DigiKey; Supplier Part Number 1: 1655-2051-1-ND; Supplier Device Package: SMC (DO-214AB)
footprint DO214AB SMC
pins: 1, 2

## 3.0SMI24CATR
designator D?
DIODE TRANSIENT VOLTAGE SUPPRESS; Manufacturer: SMC Diode Solutions; Bidirectional Channels: 1; Current - Peak Pulse (10/1000µs): 77.1A; Power Line Protection: No; Power - Peak Pulse: 3000W (3kW); Type: Zener; Voltage - Breakdown (Min): 26.7V; Voltage - Clamping (Max) @ Ipp: 38.9V; Voltage - Reverse Standoff (Typ): 24V; Part Number: 3.0SMI24CATR; Applications: General Purpose; ComponentLink1Description: Datasheet; ComponentLink1URL: http://www.smc-diodes.com/propdf/3.0SMI%20SERIES%20N1804%20REV.A.pdf; ComponentLink2Description: DigiKey Link; ComponentLink2URL: http://digikey.com/product-detail/en/smc-diode-solutions/3.0SMI24CATR/1655-2054-1-ND/9566372; LastUpdated: 9/2/2020 1:28:05 AM; Lifecycle Status: Active; Minimum Order: 1; Mounting Type: Surface Mount; Operating Temperature: -55°C ~ 150°C (TJ); Package / Case: DO-214AB, SMC; Packaging: TapeAndReel; PartId: 8353; Part Status: Active; Price: 0.19; Series: 3.0SMI; Supplier 1: DigiKey; Supplier Part Number 1: 1655-2054-1-ND; Supplier Device Package: SMC (DO-214AB)
footprint DO214AB SMC
pins: 1, 2

## 3.0SMI28ATR
designator D?
DIODE TRANSIENT VOLTAGE SUPPRESS; Manufacturer: SMC Diode Solutions; Current - Peak Pulse (10/1000µs): 66.1A; Power Line Protection: No; Power - Peak Pulse: 3000W (3kW); Type: Zener; Unidirectional Channels: 1; Voltage - Breakdown (Min): 31.1V; Voltage - Clamping (Max) @ Ipp: 45.4V; Voltage - Reverse Standoff (Typ): 28V; Part Number: 3.0SMI28ATR; Applications: General Purpose; ComponentLink1Description: Datasheet; ComponentLink1URL: http://www.smc-diodes.com/propdf/3.0SMI%20SERIES%20N1804%20REV.A.pdf; ComponentLink2Description: DigiKey Link; ComponentLink2URL: http://digikey.com/product-detail/en/smc-diode-solutions/3.0SMI28ATR/1655-2057-1-ND/9566375; LastUpdated: 9/2/2020 1:20:03 AM; Lifecycle Status: Active; Minimum Order: 1; Mounting Type: Surface Mount; Operating Temperature: -55°C ~ 150°C (TJ); Package / Case: DO-214AB, SMC; Packaging: TapeAndReel; PartId: 6733; Part Status: Active; Price: 0.19; Series: 3.0SMI; Supplier 1: DigiKey; Supplier Part Number 1: 1655-2057-1-ND; Supplier Device Package: SMC (DO-214AB)
footprint DO214AB SMC
pins: 1, 2

## 3.0SMI28CATR
designator D?
DIODE TRANSIENT VOLTAGE SUPPRESS; Manufacturer: SMC Diode Solutions; Bidirectional Channels: 1; Current - Peak Pulse (10/1000µs): 66.1A; Power Line Protection: No; Power - Peak Pulse: 3000W (3kW); Type: Zener; Voltage - Breakdown (Min): 31.1V; Voltage - Clamping (Max) @ Ipp: 45.4V; Voltage - Reverse Standoff (Typ): 28V; Part Number: 3.0SMI28CATR; Applications: General Purpose; ComponentLink1Description: Datasheet; ComponentLink1URL: http://www.smc-diodes.com/propdf/3.0SMI%20SERIES%20N1804%20REV.A.pdf; ComponentLink2Description: DigiKey Link; ComponentLink2URL: http://digikey.com/product-detail/en/smc-diode-solutions/3.0SMI28CATR/1655-2058-1-ND/9566376; LastUpdated: 9/2/2020 1:28:05 AM; Lifecycle Status: Active; Minimum Order: 1; Mounting Type: Surface Mount; Operating Temperature: -55°C ~ 150°C (TJ); Package / Case: DO-214AB, SMC; Packaging: TapeAndReel; PartId: 8348; Part Status: Active; Price: 0.19; Series: 3.0SMI; Supplier 1: DigiKey; Supplier Part Number 1: 1655-2058-1-ND; Supplier Device Package: SMC (DO-214AB)
footprint DO214AB SMC
pins: 1, 2